# Altium schematic symbol library wifi-module-v02.SCHLIB: 50 symbols
Pins are listed as number, name and electrical type; pins without a type are passive.

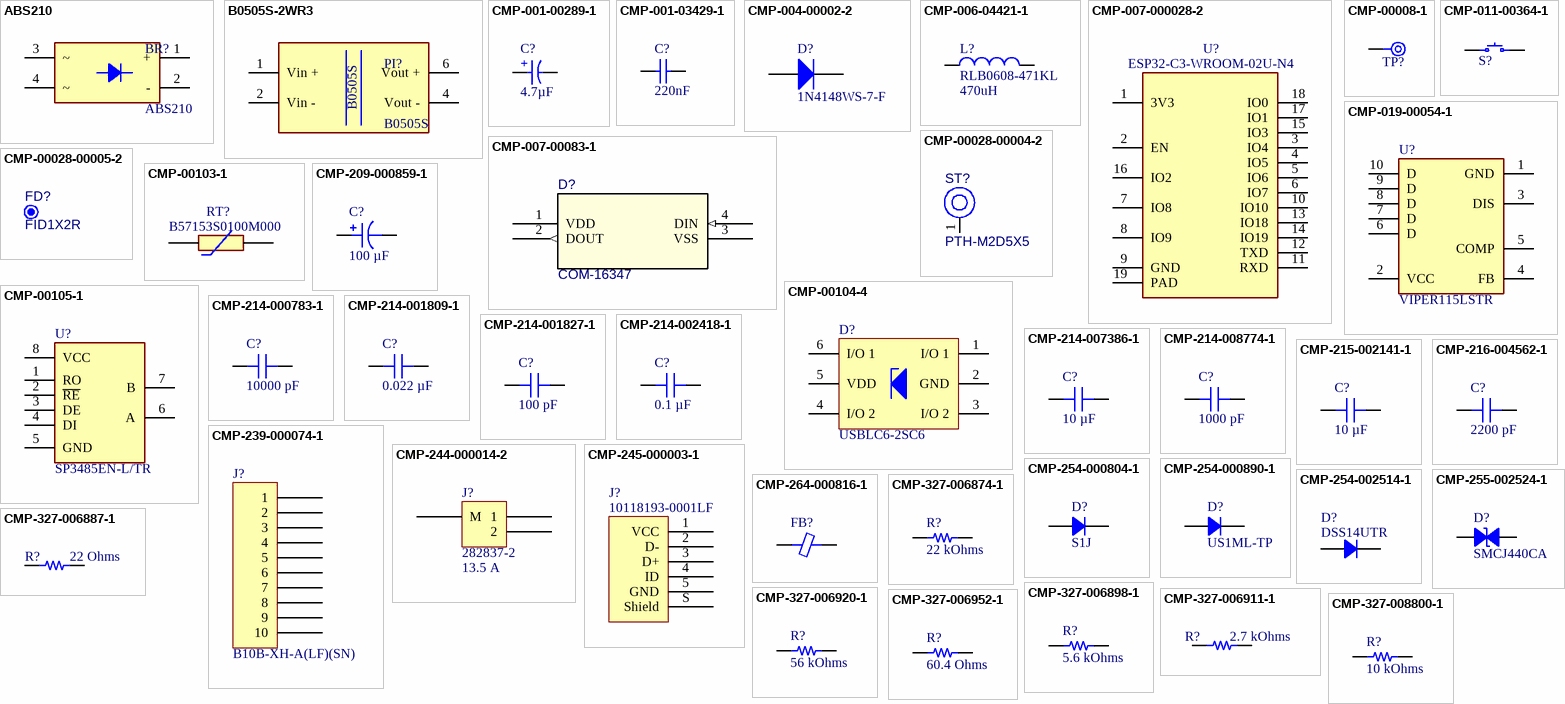
[diagram p0: symbols ABS210 to CMP-327-008800-1]

## ABS210
designator BR?
Bridge Rectifier; Manufacturer_Name: MDD; Datasheet Link: https://datasheet.lcsc.com/szlcsc/1903041530_MDD-Jiangsu-Yutai-Elec-ABS210_C113925.pdf; Height: 1.6mm; Manufacturer_Part_Number: ABS210
footprint SOP400P630X160-4N
pins: 1 +, 2 -, 3 ~, 4 ~

## B0505S-2WR3
designator PI?, comment B0505S
Isolated Power Modules; Manufacturer_Name: YLPTEC; Manufacturer_Part_Number: B0505S-2WR3; Datasheet Link: https://www.lcsc.com/datasheet/lcsc_datasheet_2304271700_YLPTEC-B0505S-2WR3_C5369473.pdf; Height: 1.6mm
footprint B0505S (SIP-4)
pins: 1 Vin +, 2 Vin -, 4 Vout -, 6 Vout +

## CMP-001-00289-1
designator C?, comment value 4.7µF  (hidden comment: 860011374005)
WCAP-ATG8 Aluminum Electrolytic Capacitor, Radial, THT, D8 x H11.5mm, 4.7uF, 400V; Manufacturer: Wurth Elektronik; Manufacturer: Wurth Electronics; Ripple Current: 55mA; Capacitance Tolerance: +/-20%; Leakage Current: 56.4uA; Simulation File: Simulations\WCAP-ATG8.ckt; Endurance: 2000h; Technical Reference: ATAE1154R7M400DSPA7B000; Simulation ModelName: 860011374005_4.7uF; Dissipation Factor: 15%; ComponentLink2URL: https://www.we-online.com/redexpert/spec/860011374005?ad; Operating Temperature Max: 85°C; Category: Aluminum Electrolytic Capacitors; Mount: Through Hole; Match Code: WCAP-ATG8; Height: 11.5mm; Diameter: 8mm; Rated Voltage (DC): 400V; Packaging: Ammo Pack; Manufacturer Part Number: 860011374005; ComponentLink1URL: https://www.we-online.com/redexpert/article/860011374005?ad; ComponentLink1Description: Website Link; Operating Temperature Min: -25°C; ComponentLink2Description: Datasheet Link; Component Type: Capacitors
simulation model 860011374005_4.7uF
footprint WCAP-ATG8_D8H11.5 (Aluminum Electrolytic Capacitors, 8x11.5mm)
pins: 1 P, 2 N
text: +

## CMP-001-03429-1
designator C?, comment value 220nF  (hidden comment: 890324024002)
WCAP-FTX2 Film Capacitor, THT, L15 x W7 x H12.5mm, 220nF, 275V; Manufacturer: Wurth Elektronik; Manufacturer: Wurth Electronics; Pitch: 12.5mm; Rate of Voltage Rise: 240V/us; Technical Reference: MX2P125224K275ASPB15000; Simulation ModelName: 890324024002_220nF; Dissipation Factor @1kHz: 0.1%; Dissipation Factor @100kHz: 2%; Insulation Resistance: 30GOhm; Simulation File: Simulations\WCAP-FTX2.ckt; Dissipation Factor @10kHz: 0.2%; Capacitance Tolerance: +/-10%; Manufacturer Part Number: 890324024002; Length: 15mm; Category: Film Capacitors; ComponentLink2Description: Datasheet Link; Operating Temperature Max: 105°C; Packaging: Carton; Match Code: WCAP-FTX2; ComponentLink1URL: https://www.we-online.com/redexpert/article/890324024002?ad; ComponentLink2URL: https://www.we-online.com/redexpert/spec/890324024002?ad; ComponentLink1Description: Website Link; Mount: Through Hole; Width: 7mm; Operating Temperature Min: -40°C; Rated Voltage (AC): 275V; Height: 12.5mm; Component Type: Capacitors
simulation model 890324024002_220nF
footprint WCAP-FTX2_L15W7H12.5 (Film Capacitors, 15x7x12.5mm)
pins: 1, 2

## CMP-004-00002-2
designator D?, comment 1N4148WS-7-F
Fast Switching Diode, 75 V, 0.3 A, -65 to 150 degC, 2-Pin SOD323, RoHS, Tape and Reel; Manufacturer: Diodes Inc; Manufacturer: Diodes; Peak Reverse Current: 1uA; Max Surge Current: 2A; Elements: 1; Forward Current: 300mA; Recovery Time: 4ns; Forward Voltage: 1.25V; Datasheet Version: Rev. 25-2, 03/2016; Case/Package: SOD; Min Operating Temperature: -65°C; RoHS Compliant: True; Max Operating Temperature: 150°C; Manufacturer URL: http://www.diodes.com/; Pins: 2; Package Quantity: 3000; Datasheet URL: http://www.diodes.com/datasheets/ds30097.pdf; Packaging: TapeandReel; Package Description: 2-Pin Small Outline Diode, Body 1.7 x 1.3 mm; Mounting Technology: SM; Package Reference: SOD323-2; Manufacturer Part Number: 1N4148WS-7-F; Component Type: Diodes
footprint DIOD-SOD323-2-A_V (SOD-323, 2-Leads, Body 1.7x1.3mm, Lead Span 2.5mm)
pins: 1 A, 2 K

## CMP-006-04421-1
designator L?, comment RLB0608-471KL  value 470uH
General Purpose Inductor, 470uH, 10%, 1 Element, Ferrite-Core; Manufacturer: Bourns; Max Current Rating: 140mA; Self Resonant Frequency: 2.8MHz; Tolerance: 10%; Min Operating Temperature: -20°C; Pins: 2; RoHS Compliant: Yes; Max Operating Temperature: 80°C; Manufacturer Part Number: RLB0608-471KL; Component Type: Inductors
footprint RLB0608-471KL-Footprint-1
pins: 1, 2

## CMP-007-000028-2
designator U?, comment ESP32-C3-WROOM-02U-N4
Bluetooth, WiFi 802.11b/g/n, Bluetooth v5.0 Transceiver Module 2.4GHz Antenna Not Included, U.FL Surface Mount; Manufacturer_Name: Espressif Systems; Design Item ID: ESP32-C3-WROOM-02U-N4; Datasheet Link: https://www.espressif.com/sites/default/files/documentation/esp32-c3-wroom-02_datasheet_en.pdf; Mouser Price/Stock: https://www.mouser.co.uk/ProductDetail/Espressif-Systems/ESP32-C3-WROOM-02U-N4?qs=pBJMDPsKWf2Ces2aXBSNjQ%3D%3D; Height: 3.35mm; Source: SamacSys.SchLib; Mouser Part Number: 356-ESP32C3WROM02UN4; Manufacturer_Part_Number: ESP32-C3-WROOM-02U-N4; Manufacturer: Espressif Systems; Manufacturer Part Number: ESP32-C3-WROOM-02U-N4; Component Type: Integrated Circuits
footprint ESP32C3WROOM02UN4
pins: 1 3V3, 2 EN, 3 IO4, 4 IO5, 5 IO6, 6 IO7, 7 IO8, 8 IO9, 9 GND, 10 IO10, 11 RXD, 12 TXD, 13 IO18, 14 IO19, 15 IO3, 16 IO2, 17 IO1, 18 IO0, 19 PAD

## CMP-007-00083-1
designator D?, comment COM-16347
Addressable Lighting - LED Serial NRZ (Shift Register) Red, Green, Blue (RGB); Manufacturer: SparkFun; Manufacturer Part Number: COM-16347; Component Type: LED
footprint COM-16347-Footprint-1
pins: 1 VDD (power), 2 DOUT (out), 3 VSS (power), 4 DIN (in)

## CMP-00008-1
designator TP?, comment TPAD1200  (value not drawn)
1.2mm round; Component Type: Test Points
footprint TPAD1200 (1.2mm round)
pins: 1 TP

## CMP-011-00364-1
designator S?, comment DS1042-03-1-2-KKR-160-10  (value not drawn)
SWITCH TACT 6.00x6.00 5.00mm 160gF SMT V/T; Manufacturer: Ningbo Connfly Electric; Manufacturer Part Number: DS1042-03-1-2-KKR-160-10; Component Type: Switches
footprint DS1042-03-1-2-KKR-160-10-Footprint-1
pins: 1, 2, 3, 4

## CMP-019-00054-1
designator U?, comment VIPER115LSTR
Converter Offline Buck, Buck-Boost, Flyback Topology 60kHz 10-SSOP; Manufacturer: STMicroelectronics; RoHS Compliant: Yes; Manufacturer Part Number: VIPER115LSTR; Component Type: Power Supply
footprint VIPER115LSTR-Footprint-1
pins: 1 GND, 2 VCC, 3 DIS, 4 FB, 5 COMP, 6 D, 7 D, 8 D, 9 D, 10 D

## CMP-00028-00004-2
designator ST?, comment PTH-M2D5X5
M2 PTH (2.5mm), 5mm pad; Pins: 1; Component Type: Mechanical
footprint PTH-M2D5X5
pins: 1 H1

## CMP-00028-00005-2
designator FD?, comment FID1X2R  (no BOM)
Fiducial - Round 1x2mm; Manufacturer: No Vendor; Pins: 0; Manufacturer Part Number: FID1X2R; Component Type: Mechanical
footprint FID1X2R (Fiducial - Round 1x2mm)

## CMP-00103-1
designator RT?, comment B57153S0100M000
Inrush Current Limiter 10 Ohms ±20% 2 A 0.335" (8.50mm); Manufacturer: TDK EPCOS; Manufacturer Part Number: B57153S0100M000; Component Type: Thermistor
footprint B57153S0100M000-Footprint-1
pins: 1, 2

## CMP-00104-4
designator D?, comment USBLC6-2SC6
Trans Voltage Suppressor Diode, 5V V(RWM), Unidirectional, 1 Element, Silicon; Manufacturer: STMicroelectronics; Manufacturer Part Number: USBLC6-2SC6; Component Type: TVS
footprint STM-SOT23-6L_V (SOT23, 6-Leads, Body 3.05x1.75mm, Pitch 0.95mm)
pins: 1 I/O 1, 2 GND, 3 I/O 2, 4 I/O 2, 5 VDD, 6 I/O 1

## CMP-00105-1
designator U?, comment SP3485EN-L/TR
Line Transceiver, 1 Func, 1 Driver, 1 Rcvr, BICMOS, PDSO8; Manufacturer: MaxLinear; Manufacturer Part Number: SP3485EN-L/TR; Component Type: Interfaces
footprint SP3485EN-L_TR-Footprint-1
pins: 1 RO, 2 ~{RE}, 3 DE, 4 DI, 5 GND, 6 A, 7 B, 8 VCC

## CMP-209-000859-1
designator C?, comment value 100 µF  (hidden comment: A768KE107M1VLAE036)
CAP ALUM POLY 100UF 20% 35V SMD; manufacturer: KEMET; Surface Mount Land Size: 0.327" L x 0.327" W (8.30mm x 8.30mm); Ripple Current @ High Frequency: 1.4 A @ 100 kHz; Type: Polymer; Lifetime @ Temp.: 2000 Hrs @ 125°C; ESR (Equivalent Series Resistance): 36mOhm; Ripple Current @ Low Frequency: 70 mA @ 120 Hz; ComponentLink1URL: https://connect.kemet.com:7667/gateway/IntelliData-ComponentDocumentation/1.0/download/datasheet/A768KE107M1VLAE036; Tolerance: ±20%; packaging: TapeAndReel; Lifecycle Status: Active; Height - Seated (Max): 0.236" (6.00mm); Part Status: Active; price: 0.16; Voltage - Rated: 35 V; series: A768; lastupdated: 9/4/2023 8:34:42 PM; Size / Dimension: 0.315" Dia (8.00mm); Mounting Type: Surface Mount; Minimum Order: 1; Part Number: A768KE107M1VLAE036; partid: 5230; ComponentLink2URL: https://www.digikey.com/en/products/detail/kemet/A768KE107M1VLAE036/13420090; ComponentLink2Description: DigiKey Link; Capacitance: 100 µF; ComponentLink1Description: Datasheet; Operating Temperature: -55°C ~ 125°C; Applications: General Purpose; Manufacturer: KEMET; Manufacturer Part Number: A768KE107M1VLAE036; Component Type: Capacitors
footprint CAP ALSMD POLY 8.3MM H6.0MM (Aluminum Electrolytic Capacitor, Body 8.30x8.30x6.0mm)
pins: 1, 2

## CMP-214-000783-1
designator C?, comment value 10000 pF  (hidden comment: CL10B103KB8NNNC)
CAP CER 10000PF 50V X7R 0603; manufacturer: Samsung Electro-Mechanics; Manufacturer: Samsung; Manufacturer: Sams; Tolerance: ±10%; Lifecycle Status: Active; Capacitance: 10000 pF; price: 0.01; Thickness (Max): 0.035" (0.90mm); Minimum Order: 1; Part Status: Active; Device Package: 0603 (1608 Metric); ComponentLink2Description: DigiKey Link; packaging: TapeAndReel; series: CL; Voltage - Rated: 50V; Size / Dimension: 0.063" L x 0.031" W (1.60mm x 0.80mm); lastupdated: 9/4/2023 7:08:47 PM; partid: 5498; ComponentLink1Description: Datasheet; ComponentLink2URL: https://www.digikey.com/en/products/detail/samsung-electro-mechanics/CL10B103KB8NNNC/3886667; Part Number: CL10B103KB8NNNC; Package / Case: 0603 (1608 Metric); Mounting Type: Surface Mount, MLCC; Temperature Coefficient: X7R; Operating Temperature: -55°C ~ 125°C; Applications: General Purpose; ComponentLink1URL: http://www.samsungsem.com/kr/support/product-search/mlcc/CL10B103KB8NNNC.jsp; Manufacturer Part Number: CL10B103KB8NNNC; Component Type: Capacitors
footprint CAP 0603_1608 (Chip Capacitor, 2-Leads, Body 1.60x0.80mm, IPC Medium Density)
pins: 1, 2

## CMP-214-001809-1
designator C?, comment value 0.022 µF  (hidden comment: CL10B223KB8NNNC)
CAP CER 0.022UF 50V X7R 0603; manufacturer: Samsung Electro-Mechanics; Manufacturer: Samsung; Tolerance: ±10%; Applications: General Purpose; ComponentLink2URL: https://www.digikey.com/en/products/detail/samsung-electro-mechanics/CL10B223KB8NNNC/3886762; Temperature Coefficient: X7R; Package / Case: 0603 (1608 Metric); Thickness (Max): 0.035" (0.90mm); packaging: TapeAndReel; ComponentLink1URL: http://www.samsungsem.com/kr/support/product-search/mlcc/CL10B223KB8NNNC.jsp; price: 0.01; Lifecycle Status: Active; Operating Temperature: -55°C ~ 125°C; Mounting Type: Surface Mount, MLCC; series: CL; partid: 9905; lastupdated: 9/4/2023 7:08:42 PM; Minimum Order: 1; Part Status: Active; Size / Dimension: 0.063" L x 0.031" W (1.60mm x 0.80mm); Voltage - Rated: 50V; Capacitance: 0.022 µF; Device Package: 0603 (1608 Metric); Part Number: CL10B223KB8NNNC; ComponentLink1Description: Datasheet; ComponentLink2Description: DigiKey Link; Manufacturer Part Number: CL10B223KB8NNNC; Component Type: Capacitors
footprint CAP 0603_1608 (Chip Capacitor, 2-Leads, Body 1.60x0.80mm, IPC Medium Density)
pins: 1, 2

## CMP-214-001827-1
designator C?, comment value 100 pF  (hidden comment: CL10C101JB81PNC)
CAP CER 100PF 50V C0G/NP0 0603; manufacturer: Samsung Electro-Mechanics; Manufacturer: Samsung; Temperature Coefficient: C0G, NP0; Tolerance: ±5%; Voltage - Rated: 50V; Size / Dimension: 0.063" L x 0.031" W (1.60mm x 0.80mm); price: 0.01; series: CL; Operating Temperature: -55°C ~ 125°C; ComponentLink2Description: DigiKey Link; ComponentLink2URL: https://www.digikey.com/en/products/detail/samsung-electro-mechanics/CL10C101JB81PNC/3887820; Package / Case: 0603 (1608 Metric); Thickness (Max): 0.035" (0.90mm); Capacitance: 100 pF; Ratings: AEC-Q200; packaging: TapeAndReel; Lifecycle Status: Active; partid: 9987; Minimum Order: 1; ComponentLink1Description: Datasheet; Device Package: 0603 (1608 Metric); lastupdated: 9/4/2023 7:08:42 PM; Mounting Type: Surface Mount, MLCC; Part Number: CL10C101JB81PNC; Part Status: Active; ComponentLink1URL: http://www.samsungsem.com/kr/support/product-search/mlcc/CL10C101JB81PNC.jsp; Applications: Automotive; Manufacturer Part Number: CL10C101JB81PNC; Component Type: Capacitors
footprint CAP 0603_1608 (Chip Capacitor, 2-Leads, Body 1.60x0.80mm, IPC Medium Density)
pins: 1, 2

## CMP-214-002418-1
designator C?, comment value 0.1 µF  (hidden comment: CC0603JRX7R9BB104)
CAP CER 0.1UF 50V X7R 0603; manufacturer: Yageo; Tolerance: ±5%; Operating Temperature: -55°C ~ 125°C; Size / Dimension: 0.063" L x 0.031" W (1.60mm x 0.80mm); Minimum Order: 1; Capacitance: 0.1 µF; Temperature Coefficient: X7R; Thickness (Max): 0.035" (0.90mm); Lifecycle Status: Active; Part Number: CC0603JRX7R9BB104; ComponentLink2Description: DigiKey Link; lastupdated: 9/4/2023 7:08:38 PM; ComponentLink2URL: https://www.digikey.com/en/products/detail/yageo/CC0603JRX7R9BB104/5195188; Device Package: 0603 (1608 Metric); price: 0.01; partid: 12474; ComponentLink1Description: Datasheet; Applications: General Purpose; Mounting Type: Surface Mount, MLCC; Package / Case: 0603 (1608 Metric); Part Status: Active; ComponentLink1URL: https://www.yageo.com/upload/media/product/productsearch/datasheet/mlcc/UPY-GPHC_X7R_6.3V-to-50V_18.pdf; series: CC; Voltage - Rated: 50V; packaging: TapeAndReel; Manufacturer: Yageo; Manufacturer Part Number: CC0603JRX7R9BB104; Component Type: Capacitors
footprint CAP 0603_1608 (Chip Capacitor, 2-Leads, Body 1.60x0.80mm, IPC Medium Density)
pins: 1, 2

## CMP-214-007386-1
designator C?, comment value 10 µF  (hidden comment: CL10A106MQ8NNNC)
CAP CER 10UF 6.3V X5R 0603; manufacturer: Samsung Electro-Mechanics; Manufacturer: Samsung; Tolerance: ±20%; Part Status: Active; ComponentLink2Description: DigiKey Link; ComponentLink1URL: http://www.samsungsem.com/kr/support/product-search/mlcc/CL10A106MQ8NNNC.jsp; partid: 39822; Thickness (Max): 0.035" (0.90mm); Voltage - Rated: 6.3V; Device Package: 0603 (1608 Metric); Lifecycle Status: Active; Mounting Type: Surface Mount, MLCC; Operating Temperature: -55°C ~ 85°C; Temperature Coefficient: X5R; packaging: TapeAndReel; ComponentLink2URL: https://www.digikey.com/en/products/detail/samsung-electro-mechanics/CL10A106MQ8NNNC/3886777; Applications: General Purpose; series: CL; Part Number: CL10A106MQ8NNNC; Minimum Order: 1; Size / Dimension: 0.063" L x 0.031" W (1.60mm x 0.80mm); ComponentLink1Description: Datasheet; lastupdated: 9/4/2023 7:08:47 PM; Capacitance: 10 µF; Package / Case: 0603 (1608 Metric); price: 0.01; Manufacturer Part Number: CL10A106MQ8NNNC; Component Type: Capacitors
footprint CAP 0603_1608 (Chip Capacitor, 2-Leads, Body 1.60x0.80mm, IPC Medium Density)
pins: 1, 2

## CMP-214-008774-1
designator C?, comment value 1000 pF  (hidden comment: C0603C102K5RACAUTO7411)
CAP CER 1000PF 50V X7R 0603; manufacturer: KEMET; Tolerance: ±10%; partid: 47213; Device Package: 0603 (1608 Metric); Lifecycle Status: Active; Operating Temperature: -55°C ~ 125°C; Capacitance: 1000 pF; lastupdated: 9/4/2023 7:08:10 PM; price: 0.01; Package / Case: 0603 (1608 Metric); Part Status: Active; series: SMD Auto X7R; Voltage - Rated: 50V; Part Number: C0603C102K5RACAUTO7411; ComponentLink1URL: https://connect.kemet.com:7667/gateway/IntelliData-ComponentDocumentation/1.0/download/datasheet/C0603C102K5RACAUTO7411; ComponentLink2URL: https://www.digikey.com/en/products/detail/kemet/C0603C102K5RACAUTO7411/11676491; Mounting Type: Surface Mount, MLCC; Ratings: AEC-Q200; Applications: Automotive, Bypass, Decoupling; ComponentLink2Description: DigiKey Link; packaging: TapeAndReel; Thickness (Max): 0.034" (0.87mm); Minimum Order: 1; Temperature Coefficient: X7R; Size / Dimension: 0.063" L x 0.031" W (1.60mm x 0.80mm); ComponentLink1Description: Datasheet; Manufacturer: KEMET; Manufacturer Part Number: C0603C102K5RACAUTO7411; Component Type: Capacitors
footprint CAP 0603_1608 (Chip Capacitor, 2-Leads, Body 1.60x0.80mm, IPC Medium Density)
pins: 1, 2

## CMP-215-002141-1
designator C?, comment value 10 µF  (hidden comment: CL21A106KAYNNNE)
CAP CER 10UF 25V X5R 0805; manufacturer: Samsung Electro-Mechanics; Manufacturer: Samsung; Tolerance: ±10%; ComponentLink2Description: DigiKey Link; Operating Temperature: -55°C ~ 85°C; Part Number: CL21A106KAYNNNE; ComponentLink1Description: Datasheet; Package / Case: 0805 (2012 Metric); series: CL; Minimum Order: 1; price: 0.02; Capacitance: 10 µF; Size / Dimension: 0.079" L x 0.049" W (2.00mm x 1.25mm); Voltage - Rated: 25V; Thickness (Max): 0.057" (1.45mm); partid: 13105; Device Package: 0805 (2012 Metric); Temperature Coefficient: X5R; Part Status: Active; Applications: General Purpose; Lifecycle Status: Active; ComponentLink2URL: https://www.digikey.com/en/products/detail/samsung-electro-mechanics/CL21A106KAYNNNE/3888549; lastupdated: 9/4/2023 7:11:56 PM; packaging: TapeAndReel; ComponentLink1URL: http://www.samsungsem.com/kr/support/product-search/mlcc/CL21A106KAYNNNE.jsp; Mounting Type: Surface Mount, MLCC; Manufacturer Part Number: CL21A106KAYNNNE; Component Type: Capacitors
footprint CAP 0805_2012 (Chip Capacitor, 2-Leads, Body 2.00x1.20mm, IPC Medium Density)
pins: 1, 2

## CMP-216-004562-1
designator C?, comment value 2200 pF  (hidden comment: C1206X222KGRAC7800)
CAP CER 2200PF 2KV X7R 1206; manufacturer: KEMET; Manufacturer Part Number: C1206X222KGRACTU; Voltage - Rated: 2000V (2kV); Tolerance: ±10%; Mounting Type: Surface Mount, MLCC; price: 0.16; Package / Case: 1206 (3216 Metric); Operating Temperature: -55°C ~ 125°C; Lifecycle Status: Active; Device Package: 1206 (3216 Metric); ComponentLink2URL: https://www.digikey.com/en/products/detail/kemet/C1206X222KGRAC7800/6126197; lastupdated: 9/4/2023 7:14:42 PM; ComponentLink2Description: DigiKey Link; Part Status: Active; Thickness (Max): 0.073" (1.85mm); Temperature Coefficient: X7R; series: SMD Comm X7R HV Flex; ComponentLink1Description: Datasheet; Applications: Boardflex Sensitive; partid: 41595; Part Number: C1206X222KGRAC7800; packaging: TapeAndReel; Minimum Order: 1; Capacitance: 2200 pF; ComponentLink1URL: https://api.kemet.com/component-edge/download/datasheet/C1206X222KGRAC7800.pdf; Features: Low ESL, Soft Termination, High Voltage; Size / Dimension: 0.130" L x 0.063" W (3.30mm x 1.60mm); Manufacturer: KEMET; Component Type: Capacitors
footprint CAP 1206_3216 - 0.8MM (Chip Capacitor, 2-Leads, Body 3.25x1.60mm, IPC Medium Density)
pins: 1, 2

## CMP-239-000074-1
designator J?, comment B10B-XH-A(LF)(SN)
CONN HEADER VERT 10POS 2.5MM; Manufacturer: JST Sales America Inc.; Manufacturer: JST; Material Flammability Rating: UL94 V-0; Contact Length - Post: 0.134" (3.40mm); Style: Board to Cable/Wire; Pitch - Mating: 0.098" (2.50mm); Shrouding: Shrouded - 4 Wall; Current Rating (Amps): 3A; Number of Positions: 10; Number of Positions Loaded: All; Voltage Rating: 250V; ComponentLink2URL: http://digikey.com/product-detail/en/jst-sales-america-inc/B10B-XH-A-LF-SN/455-2253-ND/1651051; Lifecycle Status: Active; Connector Type: Header; Fastening Type: Detent Lock; Termination: Press-Fit, Solder; ComponentLink2Description: DigiKey Link; Insulation Color: Natural; Contact Finish - Mating: Tin; Minimum Order: 1; Contact Shape: Square; ComponentLink1Description: Datasheet; PartId: 75; ComponentLink1URL: http://www.jst-mfg.com/product/pdf/eng/eXH.pdf; Number of Rows: 1; Operating Temperature: -25°C ~ 85°C; Insulation Material: Polyamide (PA66), Nylon 6/6; Price: 0.47; Contact Finish - Post: Tin; LastUpdated: 1/12/2020 11:47:42 PM; Contact Material: Brass; Part Number: B10B-XH-A(LF)(SN); Part Status: Active; Packaging: Bulk; Contact Type: Male Pin; Series: XH; Insulation Height: 0.276" (7.00mm); Mounting Type: Through Hole; Manufacturer Part Number: B10B-XH-A(LF)(SN); Component Type: Connectors
footprint JST XH B10B-XH-A
pins: 1, 2, 3, 4, 5, 6, 7, 8, 9, 10

## CMP-244-000014-2
designator J?, comment 282837-2  Current: 13.5 A
TERM BLK 2P SIDE ENT 5.08MM PCB; Manufacturer: TE Connectivity AMP Connectors; Manufacturer: TE Connectivity; Voltage: 300 V; Pitch: 0.200" (5.08mm); Wire Gauge: 16-28 AWG; Mating Orientation: Horizontal with Board; Wire Termination: Screw - Rising Cage Clamp; Number of Levels: 1; Positions Per Level: 2; Features: Interlocking (Side); Part Status: Active; Price: 0.31; Packaging: Tray; ComponentLink2URL: https://www.digikey.com/en/products/detail/te-connectivity-amp-connectors/282837-2/2187973; Part Number: 282837-2; Lifecycle Status: Active; Series: Buchanan; ComponentLink2Description: DigiKey Link; ComponentLink1Description: Datasheet; Color: Green; Mounting Type: Through Hole; Minimum Order: 1; ComponentLink1URL: https://www.te.com/commerce/DocumentDelivery/DDEController?Action=srchrtrv&DocNm=282837&DocType=Customer+Drawing&DocLang=English; LastUpdated: 6/21/2022 3:00:23 PM; Manufacturer Part Number: 282837-2; Component Type: Connectors
footprint TE 282837-2 (Wire to Board Terminal Block Horizontal with Board, 2 Postions, Body 10.76x8.2 mm, Pitch 5.08mm)
pins: 1, 2, M

## CMP-245-000003-1
designator J?, comment 10118193-0001LF
CONN RCPT USB2.0 MICRO B SMD R/A; Manufacturer: Amphenol ICC (FCI); Manufacturer: Amphenol Communications Solutions; Manufacturer: Amphenol ICC / FCI; Manufacturer Part Number: 101181930001LF; Gender: Receptacle; Number of Contacts: 5; Connector Type: USB - micro B; Voltage - Rated: 100VAC; Shielding: Shielded; Mating Cycles: 10000; Number of Ports: 1; Current Rating (Amps): 1.8A per Contact; Termination: Solder; Mounting Feature: Horizontal; Specifications: USB 2.0; Operating Temperature: -30°C ~ 80°C; Minimum Order: 1; Part Status: Active; ComponentLink1URL: https://cdn.amphenol-icc.com/media/wysiwyg/files/documentation/datasheet/inputoutput/io_usb_micro.pdf; Mounting Type: Surface Mount, Right Angle; Through Hole; Lifecycle Status: 0; Features: Solder Retention; LastUpdated: 12/9/2019 8:51:28 PM; Series: -; Packaging: TapeAndReel; Part Number: 10118193-0001LF; Price: 0.21; ComponentLink1Description: Datasheet; Manufacturer Part Number: 10118193-0001LF; Component Type: Connectors
footprint FCI USB 10118193-0001LF (USB 2.0 Type B Micro)
pins: 1 VCC, 2 D-, 3 D+, 4 ID, 5 GND, S Shield

## CMP-254-000804-1
designator D?, comment S1J
DIODE GEN PURP 600V 1A SMA; Manufacturer: ON Semiconductor; Manufacturer: ON Semiconductor / Fairchild; Reverse Recovery Time (trr): 1.8µs; Voltage - Forward (Vf) (Max) @ If: 1.1V @ 1A; Current - Reverse Leakage @ Vr: 1µA @ 600V; Capacitance @ Vr, F: 12pF @ 4V, 1MHz; Diode Type: Standard; Speed: Standard Recovery >500ns, > 200mA (Io); Packaging: TapeAndReel; PartId: 805; Mounting Type: Surface Mount; ComponentLink1Description: Datasheet; Supplier Device Package: SMA (DO-214AC); Series: -; Lifecycle Status: Active; Current - Average Rectified (Io): 1A; Minimum Order: 1; Operating Temperature - Junction: -55°C ~ 150°C; ComponentLink2URL: http://digikey.com/product-detail/en/on-semiconductor/S1J/S1JFSCT-ND/2094441; ComponentLink1URL: https://www.onsemi.com/pub/Collateral/S1M-D.pdf; ComponentLink2Description: DigiKey Link; Voltage - DC Reverse (Vr) (Max): 600V; Part Number: S1J; Package / Case: DO-214AC, SMA; Price: 0.03; LastUpdated: 9/4/2023 8:16:04 PM; Part Status: Active; Manufacturer Part Number: S1J; Component Type: Diodes
footprint DO214AC SMA (Molded Diode, 2-Leads, Body 4.30x2.60mm, IPC Medium Density)
pins: 1, 2

## CMP-254-000890-1
designator D?, comment US1ML-TP
DIODE GEN PURP 1KV 1A DO214AC; Manufacturer: Micro Commercial Co; Manufacturer: MCC; Current - Reverse Leakage @ Vr: 5 µA @ 1000 V; Voltage - Forward (Vf) (Max) @ If: 1.5 V @ 1 A; Diode Type: Standard; Capacitance @ Vr, F: 8pF @ 4V, 1MHz; Speed: Fast Recovery =< 500ns, > 200mA (Io); Voltage - DC Reverse (Vr) (Max): 1000 V; Reverse Recovery Time (trr): 120 ns; Mounting Type: Surface Mount; Part Number: US1ML-TP; Current - Average Rectified (Io): 1A; Operating Temperature - Junction: -55°C ~ 150°C; Supplier Device Package: DO-214AC (SMA); Packaging: TapeAndReel; PartId: 891; Minimum Order: 1; ComponentLink1Description: Datasheet; Price: 0.04; LastUpdated: 9/4/2023 8:16:02 PM; ComponentLink2URL: https://www.digikey.com/en/products/detail/micro-commercial-co/US1ML-TP/7681879; Lifecycle Status: Active; Series: -; ComponentLink1URL: https://www.mccsemi.com/pdf/Products/US1ML(DO-214AC)-A.pdf; ComponentLink2Description: DigiKey Link; Package / Case: DO-214AC, SMA; Part Status: Active; Manufacturer Part Number: US1ML-TP; Component Type: Diodes
footprint DO214AC SMA (Molded Diode, 2-Leads, Body 4.30x2.60mm, IPC Medium Density)
pins: 1, 2

## CMP-254-002514-1
designator D?, comment DSS14UTR
SCHOTTKY 40V SOD-123FL; Manufacturer: SMC Diode Solutions; Manufacturer: SMC; Capacitance @ Vr, F: 110pF @ 4V, 1MHz; Current - Reverse Leakage @ Vr: 100 µA @ 40 V; Current - Average Rectified (Io): 1A; Speed: Fast Recovery =< 500ns, > 200mA (Io); Voltage - Forward (Vf) (Max) @ If: 500 mV @ 1 A; Price: 0.03; Packaging: TapeAndReel; PartId: 2515; ComponentLink2URL: https://www.digikey.com/en/products/detail/smc-diode-solutions/DSS14UTR/8341859; Part Number: DSS14UTR; Diode Type: Schottky; ComponentLink2Description: DigiKey Link; Voltage - DC Reverse (Vr) (Max): 40 V; ComponentLink1URL: http://www.smc-diodes.com/propdf/DSS12U%20THRU%20DSS125U%20N1873%20REV.A.pdf; Supplier Device Package: SOD-123FL; Minimum Order: 1; Part Status: Active; ComponentLink1Description: Datasheet; LastUpdated: 9/4/2023 8:16:26 PM; Package / Case: SOD-123F; Series: -; Operating Temperature - Junction: -55°C ~ 150°C; Lifecycle Status: Active; Mounting Type: Surface Mount; Manufacturer Part Number: DSS14UTR; Component Type: Diodes
footprint SOD123F (SODFL, 2-Leads, Body 1.60x3.50mm, IPC Medium Density)
pins: 1, 2

## CMP-255-002524-1
designator D?, comment SMCJ440CA
TVS DIODE 440VWM 713VC DO214AB; Manufacturer: Littelfuse Inc.; Manufacturer: Littelfuse; Power Line Protection: No; Voltage - Reverse Standoff (Typ): 440V; Bidirectional Channels: 1; Power - Peak Pulse: 1500W (1.5kW); Voltage - Clamping (Max) @ Ipp: 713V; Voltage - Breakdown (Min): 492V; Type: Zener; Current - Peak Pulse (10/1000µs): 2.1A; Applications: General Purpose; Minimum Order: 1; Package / Case: DO-214AB, SMC; ComponentLink1Description: Datasheet; ComponentLink2Description: DigiKey Link; ComponentLink1URL: https://www.littelfuse.com/products/tvs-diodes/surface-mount/~/media/electronics/datasheets/tvs_diodes/littelfuse_tvs_diode_smcj_datasheet.pdf.pdf; LastUpdated: 9/4/2023 8:38:54 PM; Supplier Device Package: DO-214AB (SMCJ); ComponentLink2URL: https://www.digikey.com/en/products/detail/littelfuse-inc/SMCJ440CA/762461; Lifecycle Status: Active; Operating Temperature: -55°C ~ 150°C (TJ); Part Status: Active; Mounting Type: Surface Mount; PartId: 8000; Packaging: TapeAndReel; Part Number: SMCJ440CA; Price: 0.32; Series: SMCJ; Manufacturer Part Number: SMCJ440CA; Component Type: Diodes
footprint DO214AB SMC (Molded Diode, 2-Leads, Body 6.85x5.90mm, IPC Medium Density)
pins: 1, 2

## CMP-264-000816-1
designator FB?, comment MPZ1608S101ATAH0  (value not drawn)
FERRITE BEAD 100 OHM 0603 1LN; Manufacturer: TDK Corporation; Manufacturer: TDK; Number of Lines: 1; Impedance @ Frequency: 100 Ohms @ 100 MHz; Filter Type: Power Line; DC Resistance (DCR) (Max): 30mOhm; Current Rating (Max): 3A; Value: 100 Ohms @ 100 MHz; Operating Temperature: -55°C ~ 125°C; Price: 0.02; ComponentLink2Description: DigiKey Link; Mounting Type: Surface Mount; Part Status: Active; Size / Dimension: 0.063" L x 0.032" W (1.60mm x 0.80mm); Packaging: TapeAndReel; Lifecycle Status: Active; Device Package: 0603 (1608 Metric); Series: MPZ; PartId: 841; ComponentLink1URL: https://product.tdk.com/info/en/catalog/datasheets/beads_commercial_power_mpz1608_en.pdf?ref_disty=digikey; Height (Max): 0.030" (0.75mm); Minimum Order: 1; ComponentLink2URL: https://www.digikey.com/en/products/detail/tdk-corporation/MPZ1608S101ATAH0/571871; Part Number: MPZ1608S101ATAH0; ComponentLink1Description: Datasheet; Package / Case: 0603 (1608 Metric); LastUpdated: 9/4/2023 8:13:24 PM; Manufacturer Part Number: MPZ1608S101ATAH0; Component Type: Inductors
footprint FER 0603_1608 (Chip Ferrite, 2-Leads, Body 1.60x0.80mm, IPC Medium Density)
pins: 1, 2

## CMP-327-006874-1
designator R?, comment value 22 kOhms  (hidden comment: RC0603FR-0722KL)
RES 22K OHM 1% 1/10W 0603; Manufacturer: Yageo; Power (Watts): 0.1W, 1/10W; Temperature Coefficient: ±100ppm/°C; Height - Seated (Max): 0.022" (0.55mm); Packaging: CutTape; Part Number: RC0603FR-0722KL; ComponentLink2Description: DigiKey Link; ComponentLink1Description: Datasheet; Composition: Thick Film; Tolerance: ±1%; Series: RC_L; LastUpdated: 9/4/2023 7:33:21 PM; PartId: 18937; ComponentLink2URL: https://www.digikey.com/en/products/detail/yageo/RC0603FR-0722KL/727056; Device Package: 0603 (1608 Metric); ComponentLink1URL: https://www.yageo.com/upload/media/product/productsearch/datasheet/rchip/PYu-RC_Group_51_RoHS_L_10.pdf; Size / Dimension: 0.063" L x 0.031" W (1.60mm x 0.80mm); Part Status: Active; Minimum Order: 1; Package / Case: 0603 (1608 Metric); Supplier Device Package: 0603; Price: 0.01; Resistance: 22 kOhms; Features: Moisture Resistant; Operating Temperature: -55°C ~ 155°C; Lifecycle Status: Active; Number of Terminations: 2; Manufacturer Part Number: RC0603FR-0722KL; Component Type: Resistors
footprint RES 0603_1608 (Chip Resistor, 2-Leads, Body 1.60x0.80mm, IPC Medium Density)
pins: 1, 2

## CMP-327-006887-1
designator R?, comment value 22 Ohms  (hidden comment: RC0603FR-0722RL)
RES 22 OHM 1% 1/10W 0603; Manufacturer: Yageo; Power (Watts): 0.1W, 1/10W; Temperature Coefficient: ±100ppm/°C; Price: 0.01; Device Package: 0603 (1608 Metric); Tolerance: ±1%; LastUpdated: 9/4/2023 7:33:21 PM; Lifecycle Status: Active; Package / Case: 0603 (1608 Metric); Features: Moisture Resistant; ComponentLink2Description: DigiKey Link; Operating Temperature: -55°C ~ 155°C; Height - Seated (Max): 0.022" (0.55mm); Series: RC_L; ComponentLink1Description: Datasheet; Part Number: RC0603FR-0722RL; Supplier Device Package: 0603; ComponentLink2URL: https://www.digikey.com/en/products/detail/yageo/RC0603FR-0722RL/727055; Size / Dimension: 0.063" L x 0.031" W (1.60mm x 0.80mm); Composition: Thick Film; PartId: 18963; Packaging: CutTape; ComponentLink1URL: https://www.yageo.com/upload/media/product/productsearch/datasheet/rchip/PYu-RC_Group_51_RoHS_L_10.pdf; Resistance: 22 Ohms; Minimum Order: 1; Part Status: Active; Number of Terminations: 2; Manufacturer Part Number: RC0603FR-0722RL; Component Type: Resistors
footprint RES 0603_1608 (Chip Resistor, 2-Leads, Body 1.60x0.80mm, IPC Medium Density)
pins: 1, 2

## CMP-327-006898-1
designator R?, comment value 5.6 kOhms  (hidden comment: RC0603FR-075K6L)
RES 5.6K OHM 1% 1/10W 0603; Manufacturer: Yageo; Power (Watts): 0.1W, 1/10W; Temperature Coefficient: ±100ppm/°C; Price: 0.01; Features: Moisture Resistant; Tolerance: ±1%; Lifecycle Status: Active; ComponentLink2Description: DigiKey Link; ComponentLink1Description: Datasheet; LastUpdated: 9/4/2023 7:33:21 PM; Composition: Thick Film; ComponentLink2URL: https://www.digikey.com/en/products/detail/yageo/RC0603FR-075K6L/727275; Operating Temperature: -55°C ~ 155°C; Package / Case: 0603 (1608 Metric); ComponentLink1URL: https://www.yageo.com/upload/media/product/productsearch/datasheet/rchip/PYu-RC_Group_51_RoHS_L_10.pdf; Minimum Order: 1; Height - Seated (Max): 0.022" (0.55mm); Series: RC_L; PartId: 18987; Number of Terminations: 2; Supplier Device Package: 0603; Resistance: 5.6 kOhms; Part Status: Active; Device Package: 0603 (1608 Metric); Packaging: CutTape; Size / Dimension: 0.063" L x 0.031" W (1.60mm x 0.80mm); Part Number: RC0603FR-075K6L; Manufacturer Part Number: RC0603FR-075K6L; Component Type: Resistors
footprint RES 0603_1608 (Chip Resistor, 2-Leads, Body 1.60x0.80mm, IPC Medium Density)
pins: 1, 2

## CMP-327-006911-1
designator R?, comment value 2.7 kOhms  (hidden comment: RC0603FR-072K7L)
RES 2.7K OHM 1% 1/10W 0603; Manufacturer: Yageo; Temperature Coefficient: ±100ppm/°C; Power (Watts): 0.1W, 1/10W; Features: Moisture Resistant; Part Status: Active; Series: RC_L; Package / Case: 0603 (1608 Metric); PartId: 19013; ComponentLink1Description: Datasheet; Price: 0.01; Size / Dimension: 0.063" L x 0.031" W (1.60mm x 0.80mm); ComponentLink2URL: https://www.digikey.com/en/products/detail/yageo/RC0603FR-072K7L/727032; Part Number: RC0603FR-072K7L; ComponentLink1URL: https://www.yageo.com/upload/media/product/productsearch/datasheet/rchip/PYu-RC_Group_51_RoHS_L_10.pdf; Resistance: 2.7 kOhms; LastUpdated: 9/4/2023 7:33:21 PM; ComponentLink2Description: DigiKey Link; Height - Seated (Max): 0.022" (0.55mm); Packaging: CutTape; Lifecycle Status: Active; Operating Temperature: -55°C ~ 155°C; Supplier Device Package: 0603; Device Package: 0603 (1608 Metric); Minimum Order: 1; Tolerance: ±1%; Composition: Thick Film; Number of Terminations: 2; Manufacturer Part Number: RC0603FR-072K7L; Component Type: Resistors
footprint RES 0603_1608 (Chip Resistor, 2-Leads, Body 1.60x0.80mm, IPC Medium Density)
pins: 1, 2

## CMP-327-006920-1
designator R?, comment value 56 kOhms  (hidden comment: RC0603FR-0756KL)
RES 56K OHM 1% 1/10W 0603; Manufacturer: Yageo; Power (Watts): 0.1W, 1/10W; Temperature Coefficient: ±100ppm/°C; Number of Terminations: 2; Price: 0.01; Composition: Thick Film; ComponentLink2Description: DigiKey Link; PartId: 19031; Operating Temperature: -55°C ~ 155°C; Lifecycle Status: Active; ComponentLink1Description: Datasheet; Series: RC_L; Device Package: 0603 (1608 Metric); Height - Seated (Max): 0.022" (0.55mm); Package / Case: 0603 (1608 Metric); LastUpdated: 9/4/2023 7:33:20 PM; Minimum Order: 1; ComponentLink1URL: https://www.yageo.com/upload/media/product/productsearch/datasheet/rchip/PYu-RC_Group_51_RoHS_L_10.pdf; Features: Moisture Resistant; Part Status: Active; Resistance: 56 kOhms; Part Number: RC0603FR-0756KL; ComponentLink2URL: https://www.digikey.com/en/products/detail/yageo/RC0603FR-0756KL/2827626; Tolerance: ±1%; Packaging: CutTape; Size / Dimension: 0.063" L x 0.031" W (1.60mm x 0.80mm); Supplier Device Package: 0603; Manufacturer Part Number: RC0603FR-0756KL; Component Type: Resistors
footprint RES 0603_1608 (Chip Resistor, 2-Leads, Body 1.60x0.80mm, IPC Medium Density)
pins: 1, 2

## CMP-327-006952-1
designator R?, comment value 60.4 Ohms  (hidden comment: RC0603FR-0760R4L)
RES 60.4 OHM 1% 1/10W 0603; Manufacturer: Yageo; Temperature Coefficient: ±100ppm/°C; Power (Watts): 0.1W, 1/10W; ComponentLink2URL: https://www.digikey.com/en/products/detail/yageo/RC0603FR-0760R4L/727327; Tolerance: ±1%; ComponentLink1Description: Datasheet; Size / Dimension: 0.063" L x 0.031" W (1.60mm x 0.80mm); ComponentLink2Description: DigiKey Link; Height - Seated (Max): 0.022" (0.55mm); Package / Case: 0603 (1608 Metric); Price: 0.01; Lifecycle Status: Active; Minimum Order: 1; Operating Temperature: -55°C ~ 155°C; Resistance: 60.4 Ohms; Packaging: CutTape; Device Package: 0603 (1608 Metric); Supplier Device Package: 0603; LastUpdated: 9/4/2023 7:33:20 PM; Composition: Thick Film; ComponentLink1URL: https://www.yageo.com/upload/media/product/productsearch/datasheet/rchip/PYu-RC_Group_51_RoHS_L_10.pdf; Part Status: Active; Part Number: RC0603FR-0760R4L; Features: Moisture Resistant; Number of Terminations: 2; PartId: 19096; Series: RC_L; Manufacturer Part Number: RC0603FR-0760R4L; Component Type: Resistors
footprint RES 0603_1608 (Chip Resistor, 2-Leads, Body 1.60x0.80mm, IPC Medium Density)
pins: 1, 2

## CMP-327-008800-1
designator R?, comment value 10 kOhms  (hidden comment: RC0603FR-0710KL)
RES 10K OHM 1% 1/10W 0603; Manufacturer: Yageo; Power (Watts): 0.1W, 1/10W; Temperature Coefficient: ±100ppm/°C; Packaging: CutTape; Resistance: 10 kOhms; Lifecycle Status: Active; Supplier Device Package: 0603; Features: Moisture Resistant; Minimum Order: 1; PartId: 22599; Package / Case: 0603 (1608 Metric); LastUpdated: 9/4/2023 7:33:07 PM; Part Number: RC0603FR-0710KL; ComponentLink1Description: Datasheet; Composition: Thick Film; Device Package: 0603 (1608 Metric); Height - Seated (Max): 0.022" (0.55mm); Series: RC_L; Size / Dimension: 0.063" L x 0.031" W (1.60mm x 0.80mm); Tolerance: ±1%; Number of Terminations: 2; ComponentLink2Description: DigiKey Link; Part Status: Active; Price: 0.01; ComponentLink2URL: https://www.digikey.com/en/products/detail/yageo/RC0603FR-0710KL/726880; Operating Temperature: -55°C ~ 155°C; ComponentLink1URL: https://www.yageo.com/upload/media/product/productsearch/datasheet/rchip/PYu-RC_Group_51_RoHS_L_10.pdf; Manufacturer Part Number: RC0603FR-0710KL; Component Type: Resistors
footprint RES 0603_1608 (Chip Resistor, 2-Leads, Body 1.60x0.80mm, IPC Medium Density)
pins: 1, 2

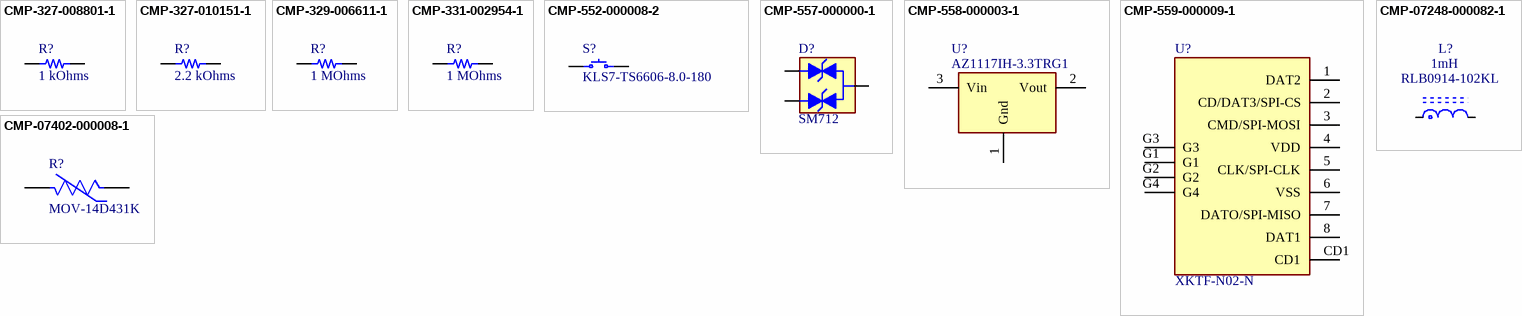
[diagram p1: symbols CMP-327-008801-1 to CMP-07402-000008-1]

## CMP-327-008801-1
designator R?, comment value 1 kOhms  (hidden comment: RC0603FR-071KL)
RES 1K OHM 1% 1/10W 0603; Manufacturer: Yageo; Temperature Coefficient: ±100ppm/°C; Power (Watts): 0.1W, 1/10W; LastUpdated: 9/4/2023 7:33:07 PM; Price: 0.01; ComponentLink2URL: https://www.digikey.com/en/products/detail/yageo/RC0603FR-071KL/726843; Series: RC_L; Features: Moisture Resistant; Resistance: 1 kOhms; Package / Case: 0603 (1608 Metric); Part Status: Active; Packaging: CutTape; Lifecycle Status: Active; Height - Seated (Max): 0.022" (0.55mm); Minimum Order: 1; ComponentLink1Description: Datasheet; Operating Temperature: -55°C ~ 155°C; Part Number: RC0603FR-071KL; Device Package: 0603 (1608 Metric); Supplier Device Package: 0603; Tolerance: ±1%; Composition: Thick Film; PartId: 22600; ComponentLink2Description: DigiKey Link; ComponentLink1URL: https://www.yageo.com/upload/media/product/productsearch/datasheet/rchip/PYu-RC_Group_51_RoHS_L_10.pdf; Number of Terminations: 2; Size / Dimension: 0.063" L x 0.031" W (1.60mm x 0.80mm); Manufacturer Part Number: RC0603FR-071KL; Component Type: Resistors
footprint RES 0603_1608 (Chip Resistor, 2-Leads, Body 1.60x0.80mm, IPC Medium Density)
pins: 1, 2

## CMP-327-010151-1
designator R?, comment value 2.2 kOhms  (hidden comment: RC0603FR-072K2L)
RES 2.2K OHM 1% 1/10W 0603; Manufacturer: Yageo; Temperature Coefficient: ±100ppm/°C; Power (Watts): 0.1W, 1/10W; Part Status: Active; Device Package: 0603 (1608 Metric); Tolerance: ±1%; Size / Dimension: 0.063" L x 0.031" W (1.60mm x 0.80mm); LastUpdated: 9/4/2023 7:32:58 PM; Supplier Device Package: 0603; Part Number: RC0603FR-072K2L; Series: RC_L; ComponentLink1URL: https://www.yageo.com/upload/media/product/productsearch/datasheet/rchip/PYu-RC_Group_51_RoHS_L_10.pdf; Height - Seated (Max): 0.022" (0.55mm); ComponentLink1Description: Datasheet; Composition: Thick Film; Features: Moisture Resistant; Package / Case: 0603 (1608 Metric); Resistance: 2.2 kOhms; Lifecycle Status: Active; Operating Temperature: -55°C ~ 155°C; Number of Terminations: 2; Minimum Order: 1; ComponentLink2Description: DigiKey Link; ComponentLink2URL: https://www.digikey.com/en/products/detail/yageo/RC0603FR-072K2L/727016; PartId: 23950; Price: 0.01; Packaging: CutTape; Manufacturer Part Number: RC0603FR-072K2L; Component Type: Resistors
footprint RES 0603_1608 (Chip Resistor, 2-Leads, Body 1.60x0.80mm, IPC Medium Density)
pins: 1, 2

## CMP-329-006611-1
designator R?, comment value 1 MOhms  (hidden comment: RC1206FR-071ML)
RES 1M OHM 1% 1/4W 1206; Manufacturer: Yageo; Power (Watts): 0.25W, 1/4W; Temperature Coefficient: ±100ppm/°C; Package / Case: 1206 (3216 Metric); Supplier Device Package: 1206; Height - Seated (Max): 0.026" (0.65mm); ComponentLink1URL: https://www.yageo.com/upload/media/product/productsearch/datasheet/rchip/PYu-RC_Group_51_RoHS_L_10.pdf; Tolerance: ±1%; Minimum Order: 1; PartId: 39213; ComponentLink1Description: Datasheet; Size / Dimension: 0.122" L x 0.063" W (3.10mm x 1.60mm); Part Status: Active; Device Package: 1206 (3216 Metric); Series: RC_L; Part Number: RC1206FR-071ML; Packaging: TapeAndReel; LastUpdated: 9/4/2023 7:43:30 PM; ComponentLink2Description: DigiKey Link; Lifecycle Status: Active; Price: 0.01; ComponentLink2URL: https://www.digikey.com/en/products/detail/yageo/RC1206FR-071ML/728388; Composition: Thick Film; Resistance: 1 MOhms; Operating Temperature: -55°C ~ 155°C; Features: Moisture Resistant; Number of Terminations: 2; Manufacturer Part Number: RC1206FR-071ML; Component Type: Resistors
footprint RES 1206_3216 (Chip Resistor, 2-Leads, Body 3.13x1.55mm, IPC Medium Density)
pins: 1, 2

## CMP-331-002954-1
designator R?, comment value 1 MOhms  (hidden comment: RMCF2512JT1M00)
RES 1M OHM 5% 1W 2512; Manufacturer: Stackpole Electronics Inc; Manufacturer: Stackpole Electronics; Temperature Coefficient: ±200ppm/°C; Lifecycle Status: Active; Resistance: 1 MOhms; Part Number: RMCF2512JT1M00; Size / Dimension: 0.248" L x 0.126" W (6.30mm x 3.20mm); ComponentLink1Description: Datasheet; Power (Watts): 1W; Composition: Thick Film; LastUpdated: 9/2/2020 1:27:04 AM; Device Package: 2512 (6432 Metric); Part Status: Active; ComponentLink2URL: http://digikey.com/product-detail/en/stackpole-electronics-inc/RMCF2512JT1M00/RMCF2512JT1M00CT-ND/7907175; Height - Seated (Max): 0.028" (0.70mm); ComponentLink2Description: DigiKey Link; Tolerance: ±5%; Price: 0.03; Series: RMCF; Package / Case: 2512 (6432 Metric); Supplier Device Package: 2512; Features: Automotive AEC-Q200; Ratings: AEC-Q200; ComponentLink1URL: https://www.seielect.com/catalog/sei-rmcf_rmcp.pdf; Packaging: TapeAndReel; Number of Terminations: 2; Operating Temperature: -55°C ~ 155°C; Minimum Order: 1; Manufacturer Part Number: RMCF2512JT1M00; Component Type: Resistors
footprint RES 2512_6432 (Chip Resistor, 2-Leads, Body 6.30x3.15mm, IPC Medium Density)
pins: 1, 2

## CMP-552-000008-2
designator S?, comment KLS7-TS6606-8.0-180
Switch; Manufacturer_Name: KLS Electronic; Height: 8mm; Manufacturer_Part_Number: KLS7-TS6606-8.0-180; Design Item ID: KLS7-TS6606-8.0-180; Source: SamacSys.SchLib; Datasheet Link: http://www.cnkls.com/admin/product_upload/20120515130927KLS7-TS6606.pdf; Component Type: Switches
footprint KLS7TS660680180
pins: 1, 2

## CMP-557-000000-1
designator D?, comment SM712
26V, 12V Clamp 17A (8/20µs) Ipp Tvs Diode Surface Mount SOT-23-3; Manufacturer Name: SMC Diode Solutions; ComponentLink1URL: https://www.smc-diodes.com/propdf/SM712%20N2270%20REV.A.pdf; ComponentLink1Description: Datasheet; Source: controller_board.SchLib; Part Number: SM712; Design Item ID: SM712; Component Type: TVS
footprint SOT-23-3
pins: 1 C1, 2 C2, 3 CC

## CMP-558-000003-1
designator U?, comment AZ1117IH-3.3TRG1
Linear Voltage Regulator IC Positive Fixed 1 Output 3V3 1A SOT-223-3; Manufacturer Name: Diodes Incorporated; Part Number: AZ1117IH-3.3TRG1; Design Item ID: AZ1117IH-3.3TRG1; ComponentLink1Description: Datasheet; ComponentLink1URL: https://www.diodes.com/assets/Datasheets/AZ1117I.pdf; Source: controller_board.SchLib; Component Type: Integrated Circuits
footprint SOT-223-3
pins: 1 Gnd, 2 Vout, 3 Vin

## CMP-559-000009-1
designator U?, comment XKTF-N02-N
-25℃~+90℃ 2mm Nickel Deck MicroSD card (TF card) 260℃ Copper Alloy Self bomb SMD SD Card Connectors ROHS; Manufacturer Name: XKB Connectivity; Design Item ID: XKTF-N02-N; ComponentLink1Description: Datasheet; ComponentLink1URL: https://datasheet.lcsc.com/lcsc/2110151630_XKB-Connectivity-XKTF-N02-N_C381084.pdf; Source: controller_board.SchLib; Part Number: XKTF-N02-N; Component Type: Connectors
footprint MicroSD
pins: 1 DAT2, 2 CD/DAT3/SPI-CS, 3 CMD/SPI-MOSI, 4 VDD, 5 CLK/SPI-CLK, 6 VSS, 7 DATO/SPI-MISO, 8 DAT1, CD1, G1, G2, G3, G4

## CMP-07248-000082-1
designator L?, comment RLB0914-102KL  Inductance: 1mH
FIXED IND 1MH 420MA 2.1 OHM TH; Manufacturer: Bourns; Lead/Base Style: Radial; Shielding: Unshielded; DC Resistance (DCR): 2.1R; Max DC Current: 300mA; Core Material: Ferrite; Inductance Tolerance: 10%; Test Frequency: 252kHz; Material: Steel; Self Resonant Frequency: 1.3MHz; Q Factor: 40; Lead Diameter: 0.65mm; Termination: Radial; Resistor Type: Wirewound; Min Operating Temperature: -40°C; Mount: Through Hole; Radiation Hardening: No; Military Standard: Not; RMS Current (Irms): 300mA; Height - Seated (Max): 0.512inch; Series: RLB; Length: 12mm; Resistance: 2.1R; Lead Pitch: 5mm; Number of Pins: 2; Height: 12mm; REACH SVHC: No SVHC; Packaging: Bulk; Package Quantity: 200; Max Operating Temperature: 105°C; Tolerance: 10%; Diameter: 8.7mm; Case/Package: Radial; Body Material: Ferrite; Orientation: Vertical; DC Current: 300mA; Current Rating: 300mA; RoHS Compliant: Yes; Manufacturer Part Number: RLB0914-102KL
footprint FP-RLB0914-MFG
pins: 1, 2

## CMP-07402-000008-1
designator R?, comment MOV-14D431K
VARISTOR 430V 4.5KA DISC 14MM; Manufacturer: Bourns Inc.; Manufacturer: Bourns; Voltage Tolerance: 10%; Varistor Voltage: 387V; Voltage Rating Ac: 275V; Capacitance: 552pF; Voltage Rating Dc: 350V; Value: 552pF; Clamping Current: 50A; Clamping Voltage: 710V; Mouser Description: Varistors 430volts 14mm; Temperature Range High: +105°C; RoHS: TRUE; ComponentLink2Description: Datasheet; Height: 20mm; Temperature: -40°C to +105°C; ComponentLink2URL: https://www.bourns.com/data/global/pdfs/MOV14D.pdf; Digikey Description: VARISTOR 430V 4.5KA DISC 14MM; Device Class L3: unset; Temperature Range Low: -40°C; Automotive: No; Device Class L1: Circuit Protection; Manufacturer Part Number: MOV-14D431K; Device Class L2: Varistors; Package: 0; Category: Res; Lead Free: Yes; Octopart: https://octopart.com/mov-14d431k-bourns-21388914
footprint FP-MOV-14D431K-MFG
pins: 1, 2